# EAGLE library part ER-OLEDM032-1 (library PP_Displays)
Manufacturer Part #: ER-OLEDM032-1 Manufacturer: Buy Display Description: Serial OLED Module Price 3.2" Display 256x64
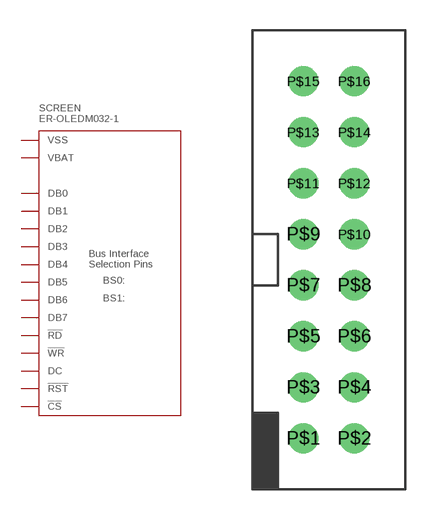
[diagram p1: symbol with the pads of ER-OLEDM032-1; footprint ER-OLEDM032-1]

Designator prefix SCREEN

## ER-OLEDM032-1  [ER-OLEDM032-1]
P$1  VSS
P$2  VBAT
P$4  DB0
P$5  DB1
P$6  DB2
P$7  DB3
P$8  DB4
P$9  DB5
P$10  DB6
P$11  DB7
P$12  !RD
P$13  !WR
P$14  DC
P$15  !RST
P$16  !CS

## Footprint ER-OLEDM032-1 (pad centres in mm)
drill 1: P$1 -1.27,-8.89; P$2 1.27,-8.89; P$3 -1.27,-6.35; P$4 1.27,-6.35; P$5 -1.27,-3.81; P$6 1.27,-3.81; P$7 -1.27,-1.27; P$8 1.27,-1.27; P$9 -1.27,1.27; P$10 1.27,1.27; P$11 -1.27,3.81; P$12 1.27,3.81; P$13 -1.27,6.35; P$14 1.27,6.35; P$15 -1.27,8.89; P$16 1.27,8.89